# Altium schematic symbol library CH572D-R0.SCHLIB: 20 symbols
Pins are listed as number, name and electrical type; pins without a type are passive.

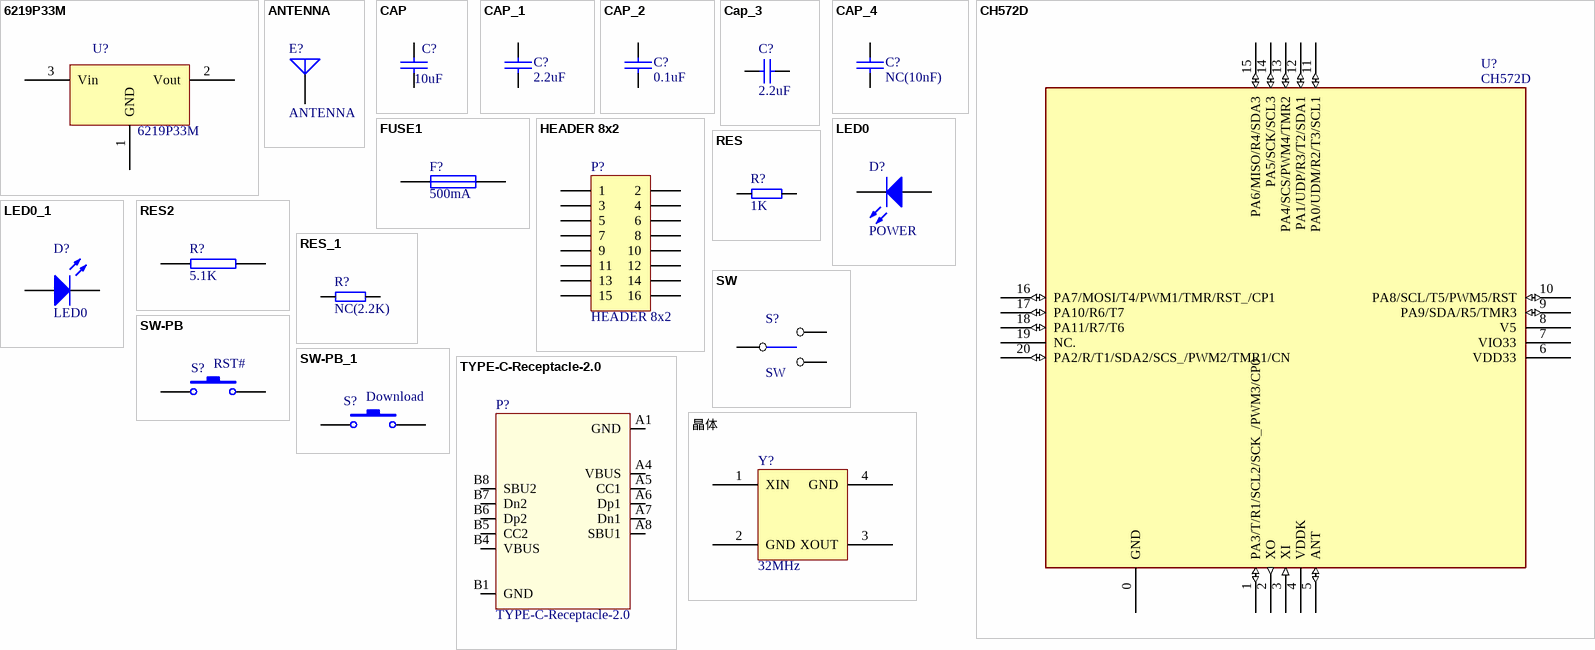
[diagram p0: symbols 6219P33M to 晶体]

## 6219P33M
designator U?
footprint SOT-23
pins: 1 GND, 2 Vout, 3 Vin
2 alternate drawings of the same symbol

## ANTENNA
designator E?
Generic Antenna
footprint ANT-F-1-2.4G-1.6mmFR4
pins: 1 A
2 alternate drawings of the same symbol

## CAP
designator C?, comment 10uF
Capacitor
footprint 0805
footprint 0603
footprint 3216
footprint 0603_C
pins: 1, 2
2 alternate drawings of the same symbol

## CAP_1
designator C?, comment 2.2uF
Capacitor
footprint 0603
footprint 0402
footprint 0402_C
pins: 1, 2
2 alternate drawings of the same symbol

## CAP_2
designator C?, comment 0.1uF
Capacitor
footprint 0603
footprint 0402
footprint 0402_C
pins: 1, 2
2 alternate drawings of the same symbol

## Cap_3
designator C?, comment 2.2uF
Capacitor; Value: 100pF; Published: 8-Jun-2000; LatestRevisionDate: 17-Jul-2002; LatestRevisionNote: Re-released for DXP Platform.; PackageReference: RAD-0.3; Publisher: Altium Limited
simulation model CAP (Capacitor)
signal-integrity model Cap
footprint 0603_C
footprint 0402_C
pins: 1, 2

## CAP_4
designator C?, comment NC(10nF)
Capacitor
footprint 0603
footprint 0402
footprint 0402_C
pins: 1, 2
2 alternate drawings of the same symbol

## CH572D
designator U?
RISC-V MCU with BLE/2.4GHz Wireless/USB/SPI/UART/I2C/PWM/CMP
footprint QFN20_3X3 (Footprint not found)
pins: 0 GND (power), 1 PA3/T/R1/SCL2/SCK_/PWM3/CP0 (io), 2 XO (out), 3 XI (in), 4 VDDK (power), 5 ANT (io), 6 VDD33 (power), 7 VIO33 (power), 8 V5 (power), 9 PA9/SDA/R5/TMR3 (io), 10 PA8/SCL/T5/PWM5/RST (io), 11 PA0/UDM/R2/T3/SCL1 (io), 12 PA1/UDP/R3/T2/SDA1 (io), 13 PA4/SCS/PWM4/TMR2 (io), 14 PA5/SCK/SCL3 (io), 15 PA6/MISO/R4/SDA3 (io), 16 PA7/MOSI/T4/PWM1/TMR/RST_/CP1 (io), 17 PA10/R6/T7 (io), 18 PA11/R7/T6 (io), 19 NC., 20 PA2/R/T1/SDA2/SCS_/PWM2/TMR1/CN (io)
2 alternate drawings of the same symbol

## FUSE1
designator F?, comment 500mA
Fuse
footprint 0603
pins: 1, 2
2 alternate drawings of the same symbol

## HEADER 8x2
designator P?
Header, 8-Pin, Dual row
footprint IDC16-2.54mm
pins: 1, 2, 3, 4, 5, 6, 7, 8, 9, 10, 11, 12, 13, 14, 15, 16
2 alternate drawings of the same symbol

## LED0
designator D?, comment POWER
Typical INFRARED GaAs LED; Published: 8-Jun-2000; LatestRevisionDate: 08-Jul-2005; LatestRevisionNote: Mech Layer 1 removed.; PackageReference: LED-0; Publisher: Altium Limited
footprint 0603+
simulation model LED0 (Diode)
pins: 1 A, 2 K

## LED0_1
designator D?, comment LED0
Typical INFRARED GaAs LED; Published: 8-Jun-2000; LatestRevisionDate: 08-Jul-2005; LatestRevisionNote: Mech Layer 1 removed.; PackageReference: LED-0; Publisher: Altium Limited
footprint 0603+
simulation model LED0 (Diode)
pins: 1 A, 2 K

## RES
designator R?, comment 1K
footprint AXIAL0.3
footprint 0603
footprint 0402
pins: 1, 2
2 alternate drawings of the same symbol

## RES2
designator R?, comment 5.1K
footprint 0603
footprint 0402
pins: 1, 2
2 alternate drawings of the same symbol

## RES_1
designator R?, comment NC(2.2K)
footprint AXIAL0.3
footprint 0603
footprint 0402
pins: 1, 2
2 alternate drawings of the same symbol

## SW
designator S?
footprint SW1
pins: 1, 2, 3

## SW-PB
designator S?, comment RST#
Switch; Published: 24-Mar-1999; LatestRevisionDate: 17-Jul-2002; LatestRevisionNote: Re-released for DXP Platform.; PackageReference: SPST-2; Publisher: Altium Limited; PackageDescription: Switch; 2 Leads
footprint SMD_6.1x3.65x2.5mm-KEY
pins: 1, 2
2 alternate drawings of the same symbol

## SW-PB_1
designator S?, comment Download
Switch; Published: 24-Mar-1999; LatestRevisionDate: 17-Jul-2002; LatestRevisionNote: Re-released for DXP Platform.; PackageReference: SPST-2; Publisher: Altium Limited; PackageDescription: Switch; 2 Leads
footprint KEYD大白按键
footprint KEY-TS3625A
footprint KEY-SMD-6.1*3.65*2.5
footprint SMD_6.1x3.65x2.5mm-KEY
pins: 1, 2
2 alternate drawings of the same symbol

## TYPE-C-Receptacle-2.0
designator P?
Type-C USB2.0 母座
footprint TYPE-C-Receptacle-2.0
pins: A1 GND, A4 VBUS, A5 CC1, A6 Dp1, A7 Dn1, A8 SBU1, B1 GND, B4 VBUS, B5 CC2, B6 Dp2, B7 Dn2, B8 SBU2

## 晶体
designator Y?, comment 32MHz
footprint XT3225
pins: 1 XIN, 2 GND, 3 XOUT, 4 GND
2 alternate drawings of the same symbol